# Altium footprint library CA_CANTHD80P35_H110.PcbLib: 1 footprints
Each footprint in its own frame and in the unit in brackets; x right, y up, seen from the top. Pads: shape width x height; smd on the part's side, far side on the other; paste and mask are expansions set on the pad; w line width, h text height; cw(c..) or ccw(c..) is an arc to the next point about the centre after c.
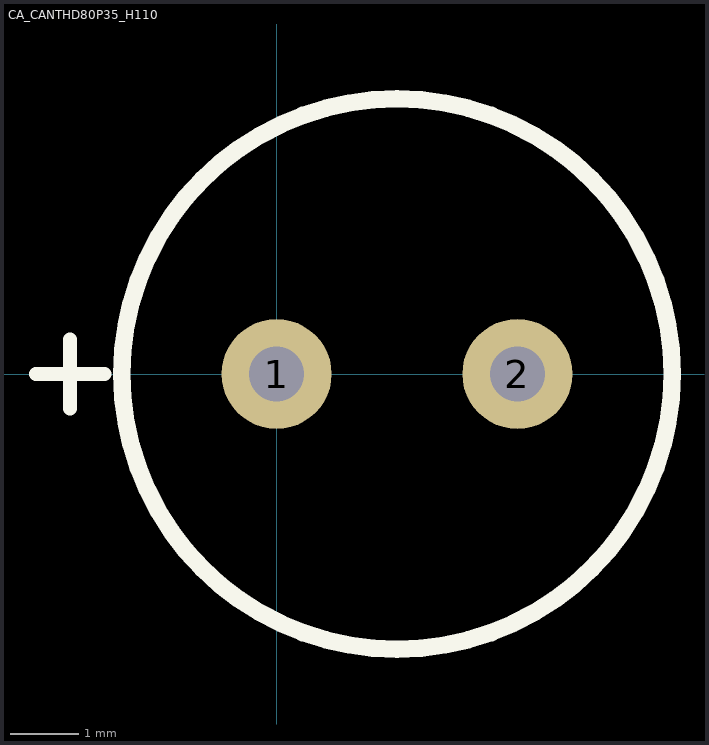
[diagram p0: the footprint, top view; thin cyan lines are the x and y axes]

## CA_CANTHD80P35_H110 [mm]
pads (2):
  round 1.6 hole 0.8: 1(0,0) 2(3.5,0)
Top Overlay:
  circle w0.254: c1.75,0 r4
  lines w0.203: -3.5,0 -2.5,0 ; -3,-0.5 -3,0.5
3D body: height 11.49, standoff -19, extent -2.25,-4 5.75,4